# Altium footprint library VESC_6.PcbLib: 20 footprints (part 2 of 2)
Each footprint in its own frame and in the unit in brackets; x right, y up, seen from the top. Pads: shape width x height; smd on the part's side, far side on the other; paste and mask are expansions set on the pad; w line width, h text height; cw(c..) or ccw(c..) is an arc to the next point about the centre after c.
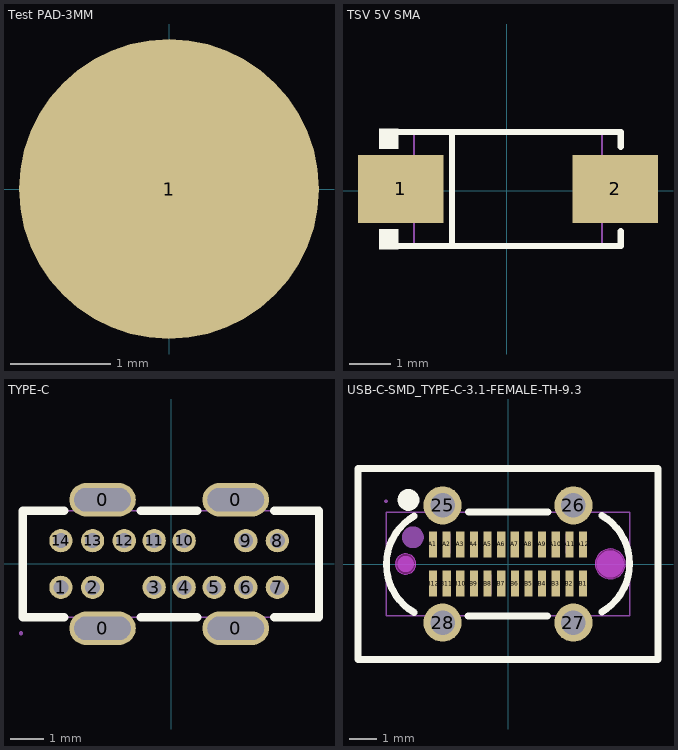
[diagram p1: the footprints below, top view; thin cyan lines are the x and y axes]

## Test PAD-3MM [mm]
pads (1):
  round 3 smd: 1(0,0)

## TSV 5V SMA [mm]
pads (2):
  rect 2.046x1.62 smd mask+0.051: 1(-2.533,0.043) 2(2.598,0.043)
Top Overlay:
  region: -2.592,1.483 -2.592,1.005 -3.05,1.005 -3.05,1.483
  region: -2.592,-1.397 -2.592,-0.92 -3.05,-0.92 -3.05,-1.397
  lines w0.152: -2.669,-1.321 2.734,-1.321 2.734,-0.97 ; -2.669,1.407 2.734,1.407 2.734,1.056 ; -1.306,-1.321 -1.306,1.407
Mechanical 6:
  region: -2.399,-0.054 -2.399,0.139 -1.627,0.139 -1.627,-0.054
  region: 2.464,-0.054 2.464,0.139 1.692,0.139 1.692,-0.054
  region: 2.175,-0.601 2.175,0.687 1.982,0.687 1.982,-0.601
Mechanical 15:
  region: -2.708,-1.332 -2.708,-1.307 -2.743,-1.272 -2.792,-1.272 -2.827,-1.307 -2.827,-1.332 -2.827,-1.357 -2.792,-1.392 -2.743,-1.392 -2.708,-1.357
  region: -2.767,-0.682 -2.767,0.768 -1.617,0.768 -1.617,-0.682
  region: 2.842,0.768 2.842,-0.682 1.692,-0.682 1.692,0.768
  lines w0.051: -2.217,-1.332 -2.217,1.418 2.283,1.418 2.283,-1.332 -2.217,-1.332

## TYPE-C [mm]
pads (18):
  oval 2x1 hole 0.7 slot 1.7 at 0 deg mask+0.051: 0(-2.062,-1.944) 0(-2.062,1.916) 0(1.938,-1.944) 0(1.938,1.916)
  round 0.7 hole 0.45 mask+0.051: 1(-3.312,-0.714) 2(-2.362,-0.714) 3(-0.512,-0.714) 4(0.388,-0.714) 5(1.288,-0.714) 6(2.238,-0.714) 7(3.188,-0.714) 8(3.188,0.686) 9(2.238,0.686) 10(0.388,0.686) 11(-0.512,0.686) 12(-1.412,0.686) 13(-2.362,0.686) 14(-3.312,0.686)
Top Overlay:
  lines w0.254: -3.214,-1.614 -4.462,-1.614 -4.462,1.586 -3.214,1.586 ; -0.91,-1.614 0.786,-1.614 ; -0.91,1.586 0.786,1.586 ; 3.09,-1.614 4.438,-1.614 4.438,1.586 3.09,1.586
Mechanical 15:
  region: -4.452,-2.094 -4.452,-2.069 -4.487,-2.034 -4.537,-2.034 -4.572,-2.069 -4.572,-2.094 -4.572,-2.119 -4.537,-2.154 -4.487,-2.154 -4.452,-2.119
  region: -3.462,0.836 -3.162,0.836 -3.162,0.536 -3.462,0.536
  region: -2.512,0.836 -2.212,0.836 -2.212,0.536 -2.512,0.536
  region: -1.562,0.836 -1.262,0.836 -1.262,0.536 -1.562,0.536
  region: -0.662,0.836 -0.362,0.836 -0.362,0.536 -0.662,0.536
  region: 0.238,0.836 0.538,0.836 0.538,0.536 0.238,0.536
  region: 2.088,0.836 2.388,0.836 2.388,0.536 2.088,0.536
  region: 3.038,0.836 3.338,0.836 3.338,0.536 3.038,0.536
  region: 3.038,-0.564 3.338,-0.564 3.338,-0.864 3.038,-0.864
  region: 2.088,-0.564 2.388,-0.564 2.388,-0.864 2.088,-0.864
  region: 1.138,-0.564 1.438,-0.564 1.438,-0.864 1.138,-0.864
  region: 0.238,-0.564 0.538,-0.564 0.538,-0.864 0.238,-0.864
  region: -0.662,-0.564 -0.362,-0.564 -0.362,-0.864 -0.662,-0.864
  region: -2.512,-0.564 -2.212,-0.564 -2.212,-0.864 -2.512,-0.864
  region: -3.462,-0.564 -3.162,-0.564 -3.162,-0.864 -3.462,-0.864
  region: -1.287,2.066 -1.287,1.766 -2.837,1.766 -2.837,2.066
  region: -1.287,-1.794 -1.287,-2.094 -2.837,-2.094 -2.837,-1.794
  region: 2.713,-1.794 2.713,-2.094 1.163,-2.094 1.163,-1.794
  region: 2.713,2.066 2.713,1.766 1.163,1.766 1.163,2.066
  region: -2.642,-1.602 -1.482,-1.602 -1.482,-1.799 -2.642,-1.799
  region: 1.358,-1.602 2.518,-1.602 2.518,-1.799 1.358,-1.799
  region: 2.518,1.574 1.358,1.574 1.358,1.573 1.357,1.771 2.518,1.771
  region: -1.482,1.574 -2.642,1.574 -2.642,1.573 -2.643,1.771 -1.482,1.771
  lines w0.051: -4.512,-1.614 4.388,-1.614 4.388,1.586 -4.512,1.586 -4.512,-1.614

## USB-C-SMD_TYPE-C-3.1-FEMALE-TH-9.3 [mm]
pads (28):
  round 1.4 hole 0.9 mask+0.051: 25(-2.401,2.15) 26(2.399,2.15) 27(2.399,-2.15) 28(-2.401,-2.15)
  rect 0.3x0.95 smd mask+0.051: A1(-2.751,0.72) A2(-2.251,0.72) A3(-1.751,0.72) A4(-1.251,0.72) A5(-0.751,0.72) A6(-0.251,0.72) A7(0.249,0.72) A8(0.749,0.72) A9(1.249,0.72) A10(1.749,0.72) A11(2.249,0.72) A12(2.749,0.72) B1(2.751,-0.72) B2(2.251,-0.72) B3(1.751,-0.72) B4(1.251,-0.72) B5(0.751,-0.72) B6(0.251,-0.72) B7(-0.249,-0.72) B8(-0.749,-0.72) B9(-1.249,-0.72) B10(-1.749,-0.72) B11(-2.249,-0.72) B12(-2.749,-0.72)
Top Overlay:
  circle w0.4: c-3.65,2.35 r0.2
  lines w0.254: -5.501,3.5 5.499,3.5 5.499,-3.5 ; -5.5,3.5 -5.5,-3.5 5.498,-3.5 ; -3.439,-1.782 cw(c-2.416,-0.011) -3.439,1.76 ; -1.462,-1.9 1.448,-1.9 ; -1.45,1.9 1.46,1.9 ; 3.437,-1.76 ccw(c2.414,0.011) 3.437,1.782
Top Paste:
  drawing of 28 lines, arcs and shapes, not listed
Keep-Out Layer:
  board cut-out: -3.376,0 -3.376,0.075 -3.433,0.212 -3.539,0.318 -3.676,0.375 -3.826,0.375 -3.963,0.318 -4.069,0.212 -4.126,0.075 -4.126,0 -4.126,-0.075 -4.069,-0.212 -3.963,-0.318 -3.826,-0.375 -3.676,-0.375 -3.539,-0.318 -3.433,-0.212 -3.376,-0.075 -3.376,0
  board cut-out: 4.299,0.003 4.299,0.112 4.215,0.314 4.061,0.469 3.858,0.553 3.64,0.553 3.437,0.469 3.283,0.314 3.199,0.112 3.199,0.003 3.199,-0.107 3.283,-0.309 3.437,-0.464 3.64,-0.547 3.858,-0.547 4.061,-0.464 4.215,-0.309 4.299,-0.107 4.299,0.003
Mechanical 1:
  circle w0.005: c-3.751,0 r0.375
  circle w0.005: c3.749,0.003 r0.55
Mechanical 6:
  circle w0.4: c-3.49,0.98 r0.2
  circle w0.5: c3.749,0.003 r0.25
  circle w0.3: c-3.751,0 r0.15
Mechanical 15:
  drawing of 37 lines, arcs and shapes, not listed